# Altium footprint library biblioteca_pcb_micro.PcbLib: 27 footprints (part 1 of 2)
Each footprint in its own frame and in the unit in brackets; x right, y up, seen from the top. Pads: shape width x height; smd on the part's side, far side on the other; paste and mask are expansions set on the pad; w line width, h text height; cw(c..) or ccw(c..) is an arc to the next point about the centre after c.
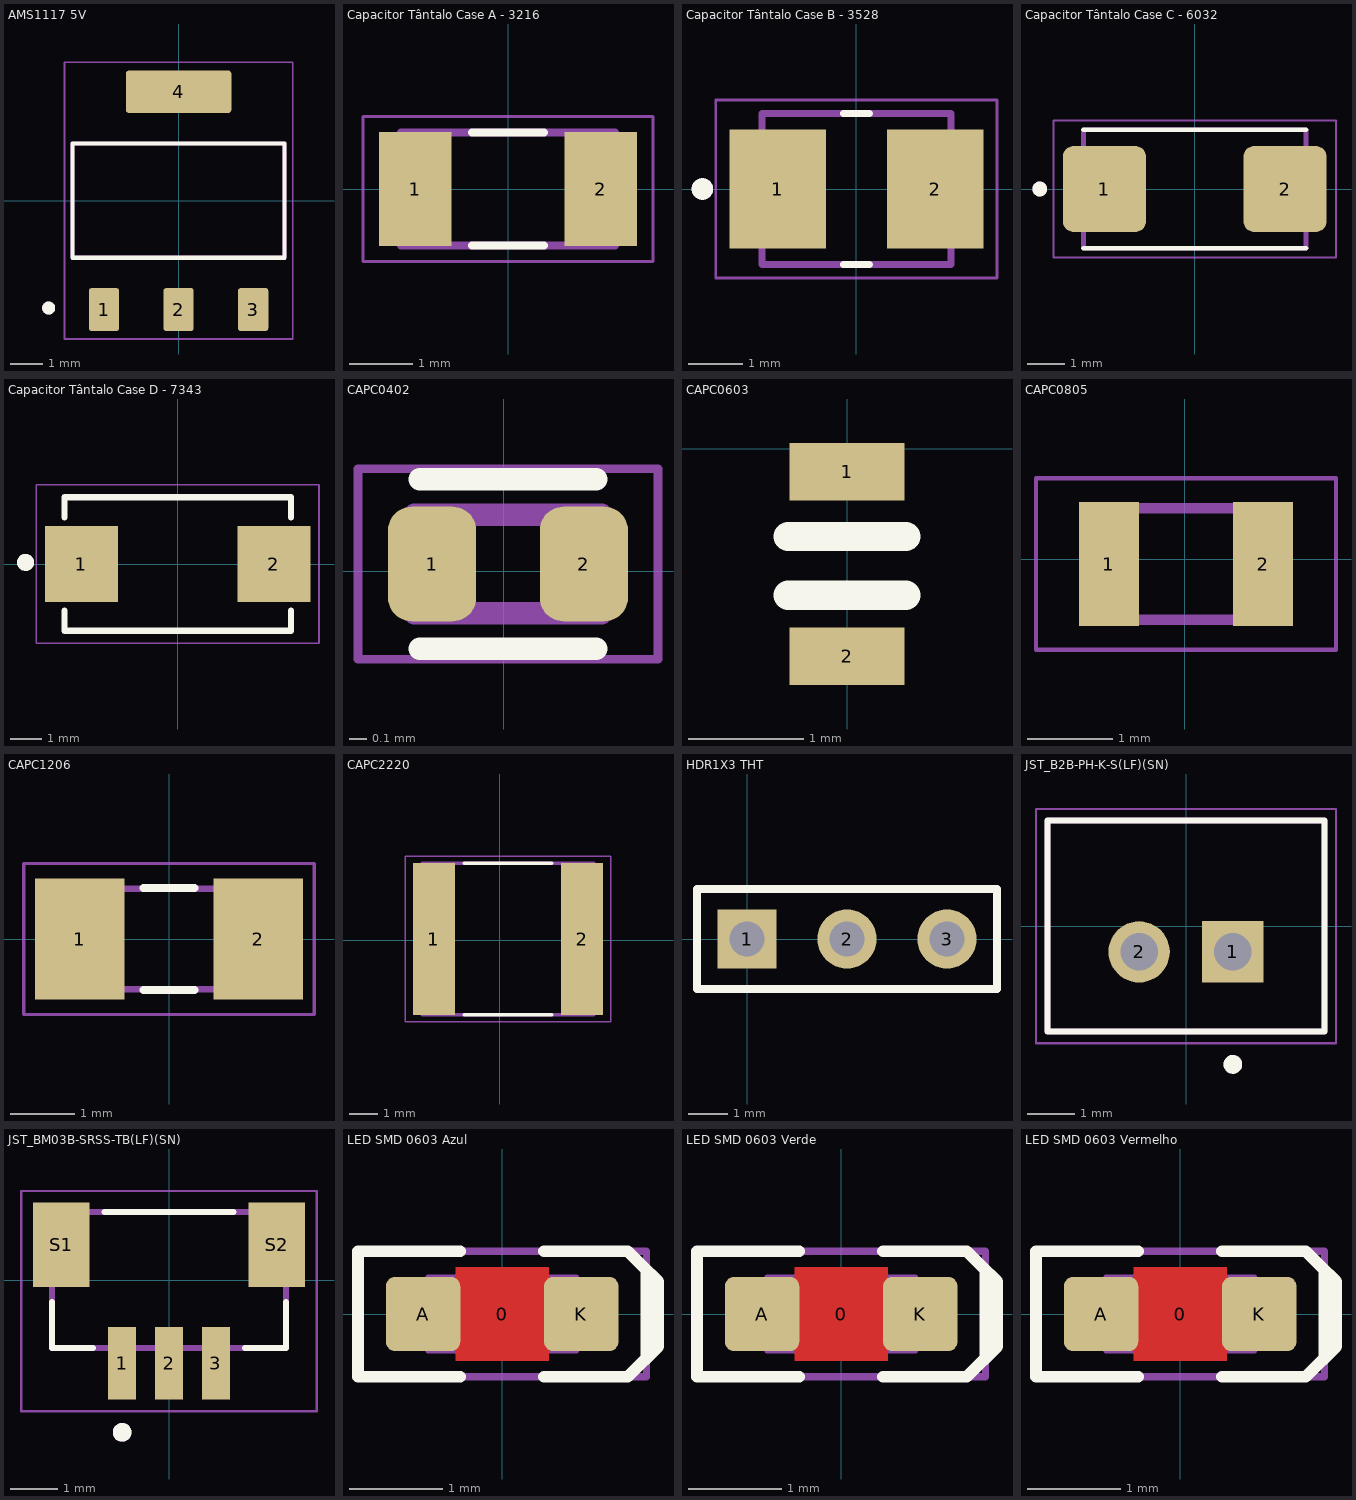
[diagram p0: the footprints below, top view; thin cyan lines are the x and y axes]

## AMS1117 5V [mm]
height 1.8
pads (4):
  rrect15% 0.93x1.31 smd: 1(-2.29,-3.345) 2(0,-3.345) 3(2.29,-3.345)
  rrect15% 3.24x1.31 smd: 4(0,3.345)
Top Overlay:
  circle w0.2: c-3.99,-3.3 r0.1
  lines w0.127: -3.253,-1.753 3.253,-1.753 3.253,1.753 -3.253,1.753 -3.253,-1.753
Mechanical 13:
  circle w0.2: c-3.99,-3.3 r0.1
  lines w0.127: -3.253,-1.753 3.253,-1.753 3.253,1.753 -3.253,1.753 -3.253,-1.753
Mechanical 15:
  lines w0.05: -3.502,-4.25 3.502,-4.25 3.502,4.25 -3.502,4.25 -3.502,-4.25
3D body "step_temp.STEP": height 1.8, standoff 0, extent -3.251,-3.499 3.251,3.499

## Capacitor Tântalo Case A - 3216 [mm]
pads (2):
  rect 1.16x1.82 smd: 1(-1.475,0) 2(1.475,0)
Top Overlay:
  lines w0.127: -0.57,-0.9 0.57,-0.9 ; -0.57,0.9 0.57,0.9
Mechanical 13:
  lines w0.127: -1.7,-0.9 -1.7,0.9 1.7,0.9 1.7,-0.9 -1.7,-0.9
Mechanical 15:
  lines w0.05: -2.308,-1.15 -2.308,1.15 2.308,1.15 2.308,-1.15 -2.308,-1.15
3D body "T494A476M006AT.STEP": height 1.8, standoff 0, extent -1.6,-0.8 1.6,0.8

## Capacitor Tântalo Case B - 3528 [mm]
pads (2):
  rect 1.79x2.21 smd: 1(-1.46,0) 2(1.46,0)
Top Overlay:
  circle w0.2: c-2.855,0 r0.1
  lines w0.127: -0.245,-1.4 0.245,-1.4 ; -0.245,1.4 0.245,1.4
Mechanical 13:
  circle w0.2: c-2.855,0 r0.1
  lines w0.127: -1.75,-1.4 1.75,-1.4 1.75,1.4 -1.75,1.4 -1.75,-1.4
Mechanical 15:
  lines w0.05: -2.605,-1.65 2.605,-1.65 2.605,1.65 -2.605,1.65 -2.605,-1.65
3D body "step_temp.STEP": height 2.1, standoff 0, extent -1.75,-1.4 1.75,1.4

## Capacitor Tântalo Case C - 6032 [mm]
pads (2):
  rrect25% 2.24x2.32 smd: 1(-2.435,0) 2(2.435,0)
Top Overlay:
  circle w0.2: c-4.18,0 r0.1
  lines w0.127: -3,-1.6 3,-1.6 ; -3,1.6 3,1.6
Mechanical 13:
  circle w0.2: c-4.18,0 r0.1
  lines w0.127: -3,-1.6 3,-1.6 3,1.6 -3,1.6 -3,-1.6
Mechanical 15:
  lines w0.05: -3.81,-1.85 3.81,-1.85 3.81,1.85 -3.805,1.85 -3.81,-1.85

## Capacitor Tântalo Case D - 7343 [mm]
pads (2):
  rect 2.35x2.45 smd: 1(-3.1,0) 2(3.1,0)
Top Overlay:
  circle w0.127: c-4.85,0 r0.112
  circle w0.127: c-4.95,0.05 r0.112
  circle w0.127: c-4.9,0.05 r0.212
  lines w0.2: -3.65,-1.5 -3.65,-2.15 3.65,-2.15 3.65,-1.5 ; -3.65,1.5 -3.65,2.15 3.65,2.15 3.65,1.5
Mechanical 15:
  lines w0.05: -4.55,-2.55 4.55,-2.55 4.55,2.55 -4.55,2.55 -4.55,-2.55
3D body "step_temp.STEP": height 4.3, standoff 0, extent -3.65,-2.15 3.65,2.15

## CAPC0402 [mm]
pads (2):
  rrect53% 0.5x0.65 smd: 1(-0.407,0.041) 2(0.453,0.041)
Top Overlay:
  lines w0.127: -0.477,-0.439 0.523,-0.439 ; -0.477,0.521 0.523,0.521
Top Designator:
  text ".Designator" at -7.594,-0.467 h1.52
Mechanical 13:
  lines w0.127: -0.507,-0.239 -0.507,0.321 0.553,0.321 0.553,-0.239 -0.507,-0.239
Mechanical 15:
  lines w0.05: -0.827,-0.499 -0.827,0.581 0.873,0.581 0.873,-0.499 -0.827,-0.499
3D body "cap0402.STEP": height 0.55, standoff 0, extent -0.45,-0.225 0.55,0.275

## CAPC0603 [mm]
pads (2):
  rect 1x0.5 smd: 1(0,-0.2) 2(0,-1.8)
Top Overlay:
  lines w0.254: -0.508,-1.27 0.508,-1.27 ; -0.508,-0.762 0.508,-0.762
Top Designator:
  text ".Designator" at -7.618,-1.508 h1.52
3D body "CERAMIC0603.STEP": height 0.8, standoff -0.01, extent -0.45,-1.8 0.45,-0.2

## CAPC0805 [mm]
pads (2):
  rect 0.7x1.45 smd: 1(-0.883,-0.058) 2(0.917,-0.058)
Top Designator:
  text ".Designator" at -7.601,-0.566 h1.52
Mechanical 13:
  lines w0.127: -0.983,-0.708 1.017,-0.708 1.017,0.592 -0.983,0.592 -0.983,-0.708
Mechanical 15:
  lines w0.05: -1.733,-1.058 1.767,-1.058 1.767,0.942 -1.733,0.942 -1.733,-1.058
3D body "0805.2.STEP": height 0.94, standoff 0, extent -1.005,-0.65 1.005,0.6

## CAPC1206 [mm]
pads (2):
  rect 1.4x1.9 smd: 1(-1.4,0) 2(1.4,0)
Top Overlay:
  lines w0.127: -0.4,-0.8 0.4,-0.8 ; -0.4,0.8 0.4,0.8
Top Designator:
  text ".Designator" at -7.618,-0.508 h1.52
Mechanical 13:
  region: 1.702,-0.849 0.952,-0.849 0.952,0.851 1.702,0.851
  region: -0.952,-0.851 -1.702,-0.851 -1.702,0.849 -0.952,0.849
  lines w0.102: -0.965,-0.787 0.965,-0.787 ; -0.965,0.787 0.965,0.787
Mechanical 15:
  lines w0.051: -2.275,-1.183 -2.275,1.183 2.275,1.183 2.275,-1.183 -2.275,-1.183
3D body "CAP1206.STEP": height 1.6, standoff 0, extent -1.6,-0.9 1.6,0.88

## CAPC2220 [mm]
pads (2):
  rect 1.5x5.41 smd: 1(-2.347,0.046) 2(2.931,0.046)
Top Overlay:
  lines w0.127: -1.258,-2.654 1.842,-2.654 ; -1.258,2.746 1.842,2.746
Top Designator:
  text ".Designator" at -7.326,-0.462 h1.52
Mechanical 13:
  lines w0.127: -2.758,-2.654 -2.758,2.746 3.342,2.746 3.342,-2.654 -2.758,-2.654
Mechanical 15:
  lines w0.05: -3.362,-2.904 3.946,-2.904 3.946,2.996 -3.362,2.996 -3.362,-2.904
3D body "cap2220.STEP": height 3.3, standoff 0, extent -2.5,-2.475 3.2,2.525

## HDR1X3 THT [mm] "Connector; Header; 3 Position"
pads (3):
  rect 1.5x1.5 hole 0.9: 1(0,0)
  round 1.5 hole 0.9: 2(2.54,0) 3(5.08,0)
Top Overlay:
  lines w0.2: -1.27,-1.27 6.35,-1.27 6.35,1.27 -1.27,1.27 -1.27,-1.27
Top Designator:
  text ".Designator" at -5.078,-0.508 h1.52
3D body "Header 3 pins - Male.stp": height 8.27, standoff -3.27, extent -1.27,-1.24 6.35,1.3

## JST_B2B-PH-K-S(LF)(SN) [mm]
pads (2):
  rect 1.308x1.308 / inner round 1.308 / far side rect 1.308x1.308 hole 0.8: 1(1,-0.55)
  round 1.308 hole 0.8: 2(-1,-0.55)
Top Overlay:
  circle w0.2: c1,-2.95 r0.1
  lines w0.127: -2.95,-2.25 -2.95,2.25 2.95,2.25 2.95,-2.25 -2.95,-2.25
Mechanical 13:
  circle w0.2: c1,-2.95 r0.1
  lines w0.127: -2.95,-2.25 2.95,-2.25 2.95,2.25 -2.95,2.25 -2.95,-2.25
Mechanical 15:
  lines w0.05: -3.2,-2.5 3.2,-2.5 3.2,2.5 -3.2,2.5 -3.2,-2.5
3D body "step_temp.STEP": height 6, standoff -3.4, extent -2.95,-2.25 2.95,2.25

## JST_BM03B-SRSS-TB(LF)(SN) [mm]
height 6.3
pads (5):
  rect 0.6x1.55 smd: 1(-1,-1.775) 2(0,-1.775) 3(1,-1.775)
  rect 1.2x1.8 smd: S1(-2.3,0.75) S2(2.3,0.75)
Top Overlay:
  circle w0.2: c-1,-3.25 r0.1
  lines w0.127: -2.5,-0.47 -2.5,-1.45 -1.62,-1.45 ; -1.38,1.45 1.38,1.45 ; 1.62,-1.45 2.5,-1.45 2.5,-0.47
Mechanical 13:
  circle w0.2: c-1,-3.25 r0.1
  lines w0.127: -2.5,-1.45 -2.5,1.45 2.5,1.45 2.5,-1.45 -2.5,-1.45
Mechanical 15:
  lines w0.05: -3.15,-2.8 3.15,-2.8 3.15,1.9 -3.15,1.9 -3.15,-2.8
3D body "step_temp.STEP": height 4.35, standoff 0, extent -2.5,-2.15 2.5,1.45

## LED SMD 0603 Azul [mm]
height 0.8
pads (3):
  round 0.254 on Mech15: 0(0,0)
  rrect25% 0.8x0.8 smd: A(-0.85,0) K(0.85,0)
Top Layer:
  pour cut-out: -0.5,0.5 0.5,0.5 0.5,-0.5 -0.5,-0.5
Top Overlay:
  lines w0.127: -0.45,-0.675 -1.55,-0.675 -1.55,0.675 -0.45,0.675 ; 0.45,-0.675 1.35,-0.675 1.55,-0.475 1.55,0.475 1.35,0.675 0.45,0.675 ; 1.5,0.525 1.675,0.35 1.675,-0.35 1.525,-0.5
Top Designator:
  text ".Designator" at -7.555,-0.508 h1.52
Mechanical 13:
  lines w0.05: -0.6,-0.4 -0.6,0.399 0.6,0.4 0.6,-0.4 -0.6,-0.399 ; -0.505,-0.398 -0.505,0.398 ; -0.5,-0.4 -0.8,-0.4 -0.8,0.4 -0.5,0.4 ; 0.5,-0.4 0.8,-0.4 0.8,0.4 0.5,0.4 ; 0.505,-0.398 0.505,0.398 ; -0.599,-0.398 -0.599,0.398 0.599,0.398 0.599,-0.398 -0.599,-0.398
Mechanical 15:
  lines w0.076: -1.55,-0.675 1.55,-0.675 1.55,0.675 -1.55,0.675 -1.55,-0.675
3D body "LED Azul.STEP": height 0.76, standoff 0.01, extent -0.8,-0.4 0.8,0.4

## LED SMD 0603 Verde [mm]
height 0.8
pads (3):
  round 0.254 on Mech15: 0(0,0)
  rrect25% 0.8x0.8 smd: A(-0.85,0) K(0.85,0)
Top Layer:
  pour cut-out: -0.5,0.5 0.5,0.5 0.5,-0.5 -0.5,-0.5
Top Overlay:
  lines w0.127: -0.45,-0.675 -1.55,-0.675 -1.55,0.675 -0.45,0.675 ; 0.45,-0.675 1.35,-0.675 1.55,-0.475 1.55,0.475 1.35,0.675 0.45,0.675 ; 1.5,0.525 1.675,0.35 1.675,-0.35 1.525,-0.5
Top Designator:
  text ".Designator" at -7.555,-0.508 h1.52
Mechanical 13:
  lines w0.05: -0.6,-0.4 -0.6,0.399 0.6,0.4 0.6,-0.4 -0.6,-0.399 ; -0.505,-0.398 -0.505,0.398 ; -0.5,-0.4 -0.8,-0.4 -0.8,0.4 -0.5,0.4 ; 0.5,-0.4 0.8,-0.4 0.8,0.4 0.5,0.4 ; 0.505,-0.398 0.505,0.398 ; -0.599,-0.398 0.599,-0.398 0.599,0.398 -0.599,0.398 -0.599,-0.398
Mechanical 15:
  lines w0.076: -1.55,-0.675 -1.55,0.675 1.55,0.675 1.55,-0.675 -1.55,-0.675
3D body "LED Verde.STEP": height 0.76, standoff 0.01, extent -0.8,-0.4 0.8,0.4

## LED SMD 0603 Vermelho [mm]
height 0.8
pads (3):
  round 0.254 on Mech15: 0(0,0)
  rrect25% 0.8x0.8 smd: A(-0.85,0) K(0.85,0)
Top Layer:
  pour cut-out: -0.5,0.5 0.5,0.5 0.5,-0.5 -0.5,-0.5
Top Overlay:
  lines w0.127: -0.45,-0.675 -1.55,-0.675 -1.55,0.675 -0.45,0.675 ; 0.45,-0.675 1.35,-0.675 1.55,-0.475 1.55,0.475 1.35,0.675 0.45,0.675 ; 1.5,0.525 1.675,0.35 1.675,-0.35 1.525,-0.5
Top Designator:
  text ".Designator" at -7.555,-0.508 h1.52
Mechanical 13:
  lines w0.05: -0.6,-0.4 -0.6,0.399 0.6,0.4 0.6,-0.4 -0.6,-0.399 ; -0.505,-0.398 -0.505,0.398 ; -0.5,-0.4 -0.8,-0.4 -0.8,0.4 -0.5,0.4 ; 0.5,-0.4 0.8,-0.4 0.8,0.4 0.5,0.4 ; 0.505,-0.398 0.505,0.398 ; -0.599,-0.398 -0.599,0.398 0.599,0.398 0.599,-0.398 -0.599,-0.398
Mechanical 15:
  lines w0.076: -1.55,-0.675 1.55,-0.675 1.55,0.675 -1.55,0.675 -1.55,-0.675
3D body "LED Vermelho.STEP": height 0.76, standoff 0.01, extent -0.8,-0.4 0.8,0.4